# Altium footprint library SR PCB Library V01.PcbLib: 402 footprints (part 25 of 26)
Each footprint in its own frame and in the unit in brackets; x right, y up, seen from the top. Pads: shape width x height; smd on the part's side, far side on the other; paste and mask are expansions set on the pad; w line width, h text height; cw(c..) or ccw(c..) is an arc to the next point about the centre after c.
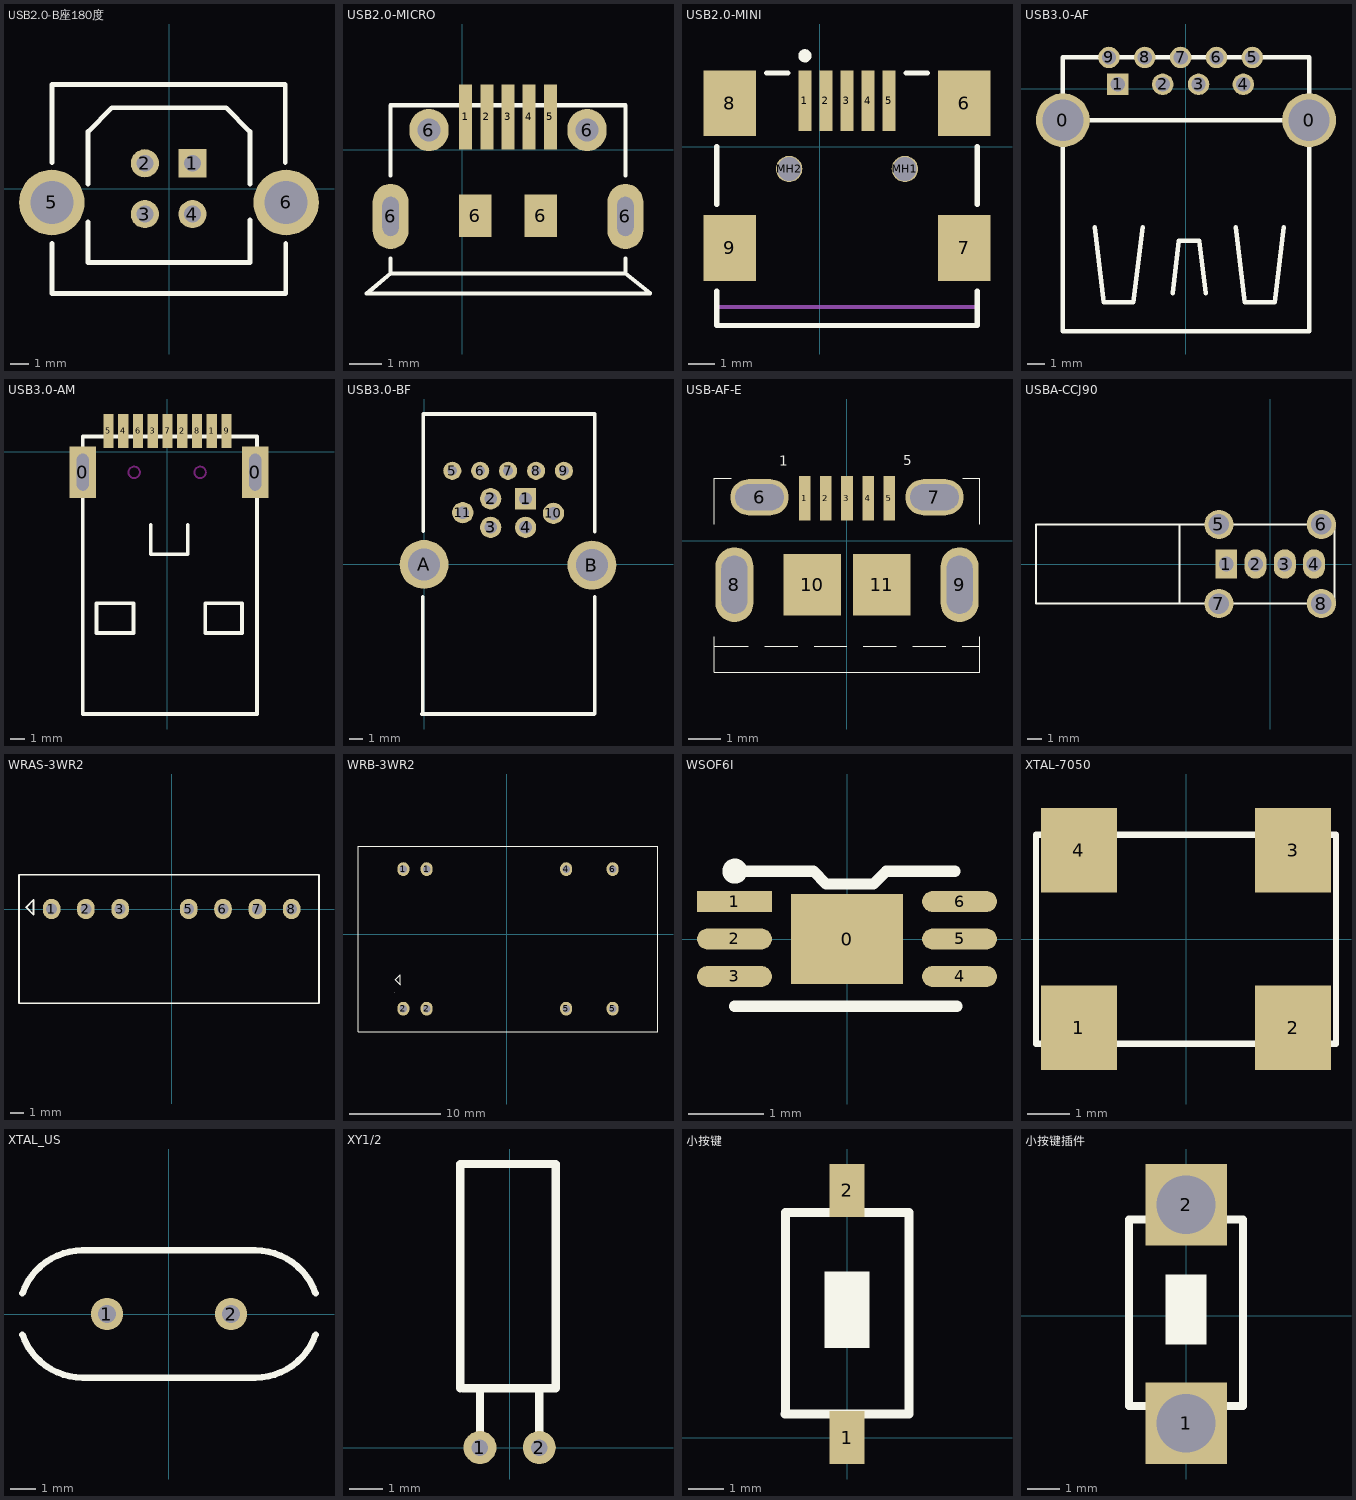
[diagram p24: the footprints below, top view; thin cyan lines are the x and y axes]

## USB2.0-B座180度 [mm]
pads (6):
  rect 1.5x1.5 hole 0.9: 1(1.25,1.355)
  round 1.5 hole 0.9: 2(-1.29,1.355) 3(-1.29,-1.355) 4(1.25,-1.355)
  round 3.5 hole 2.3: 5(-6.25,-0.736) 6(6.25,-0.736)
Top Overlay:
  lines w0.254: -6.243,-2.921 -6.243,-5.595 6.152,-5.595 ; -6.242,1.397 -6.242,5.563 6.2,5.563 6.2,1.397 ; -4.318,-1.778 -4.318,-3.937 4.318,-3.937 4.318,-1.651 ; -4.318,0.254 -4.318,3.048 -3.048,4.318 3.011,4.318 ; 3.048,4.318 4.318,3.048 4.318,0.254 ; 6.223,-5.588 6.223,-2.921

## USB2.0-MICRO [mm]
pads (11):
  rect 0.4x2 smd: 1(0.1,1) 2(0.75,1) 3(1.4,1) 4(2.05,1) 5(2.7,1)
  oval 1.1x2 hole 0.5 slot 1.2 at 90 deg: 6(-2.2,-2.05) 6(5,-2.05)
  oval 1.2x1.3 hole 0.7: 6(-1.025,0.6) 6(3.825,0.6)
  rect 1x1.3 smd: 6(0.4,-2.033) 6(2.4,-2.033)
Top Overlay:
  lines w0.127: -2.2,-3.337 -2.2,-3.8 ; -2.2,-0.797 -2.2,1.362 5,1.362 5,-0.797 ; 5,-3.337 5,-3.8 ; 5.753,-4.409 -2.94,-4.417 -2.2,-3.8 ; 5.753,-4.396 5,-3.8 ; -2.2,-3.8 5,-3.8

## USB2.0-MINI [mm]
pads (11):
  rect 0.5x2.3 smd: 1(-0.557,1.756) 2(0.243,1.756) 3(1.043,1.756) 4(1.843,1.756) 5(2.643,1.756)
  rect 2x2.5 smd: 6(5.493,1.656) 7(5.493,-3.844) 8(-3.407,1.656) 9(-3.407,-3.844)
  round 1 hole 0.9 unplated: MH1(3.243,-0.844) MH2(-1.157,-0.844)
Top Overlay:
  circle w0.25: c-0.557,3.456 r0.125
  lines w0.2: -3.907,-5.494 -3.907,-6.794 5.993,-6.794 5.993,-5.494 ; -3.907,-2.194 -3.907,0.006 ; -2.007,2.806 -1.207,2.806 ; 3.293,2.806 4.093,2.806 ; 5.993,-2.194 5.993,0.006
Mechanical 1:
  lines w0.15: -3.907,-6.094 5.993,-6.094
  text "PCB Edge" at -2.994,-6.527 h0.25

## USB3.0-AF [mm]
pads (11):
  round 3 hole 2.3: 0(-6.87,-1.75) 0(6.87,-1.75)
  rect 1.2x1.2 hole 0.8: 1(-3.8,0.25)
  round 1.2 hole 0.8: 2(-1.3,0.25) 3(0.7,0.25) 4(3.2,0.25) 5(3.7,1.75) 6(1.7,1.75) 7(-0.3,1.75) 8(-2.3,1.75) 9(-4.3,1.75)
Top Overlay:
  lines w0.254: -5.092,-7.719 -4.584,-11.91 -2.933,-11.91 -2.425,-7.719 ; -0.747,-11.405 -0.393,-8.481 0.75,-8.481 1.104,-11.405 ; 2.782,-7.719 3.29,-11.91 4.941,-11.91 5.449,-7.719 ; -6.87,-1.75 -6.87,1.75 6.87,1.75 6.87,-1.75 ; -6.87,-1.75 -6.87,-13.53 6.87,-13.53 6.87,-1.75 ; -6.87,-1.75 6.87,-1.75

## USB3.0-AM [mm]
pads (11):
  rect 1.8x3.5 hole 0.8 slot 2.5 at 90 deg: 0(-5.715,-1.397) 0(5.969,-1.397)
  rect 0.7x2.3 smd: 1(3.026,1.397) 2(1.026,1.397) 3(-0.974,1.397) 4(-2.974,1.397) 5(-3.974,1.397) 6(-1.974,1.397) 7(0.026,1.397) 8(2.026,1.397) 9(4.026,1.397)
Top Overlay:
  lines w0.254: -1.103,-4.953 -1.103,-6.953 1.397,-6.953 1.397,-4.953 ; -5.715,-17.784 6.096,-17.784 6.096,1.016 -5.715,1.016 -5.715,-17.784 ; -4.786,-12.287 -2.286,-12.287 -2.286,-10.287 -4.786,-10.287 -4.786,-12.287 ; 2.58,-12.287 2.58,-10.287 5.08,-10.287 5.08,-12.287 2.58,-12.287
Keep-Out Layer:
  circle w0.127: c-2.235,-1.406 r0.39
  circle w0.127: c2.235,-1.406 r0.39

## USB3.0-BF [mm]
pads (13):
  rect 1.524x1.524 hole 0.914: 1(7.27,4.71)
  round 1.524 hole 0.914: 2(4.77,4.71) 3(4.77,2.66) 4(7.27,2.66) 10(9.27,3.66) 11(2.77,3.71)
  round 1.3 hole 0.7: 5(2.02,6.71) 6(4.02,6.71) 7(6.02,6.71) 8(8.02,6.71) 9(10.02,6.71)
  round 3.505 hole 2.311: A(0,0)
  round 3.505 hole 2.3: B(12.023,-0.05)
Top Overlay:
  lines w0.254: -0.108,-2.301 -0.108,-10.675 -0.15,-10.716 12.183,-10.716 12.22,-10.68 12.22,-2.301 ; -0.074,2.378 -0.074,10.781 12.22,10.781 12.22,2.342

## USB-AF-E [mil]
height 118.11
pads (11):
  rect 14x54 smd: 1(-51.18,52.15) 2(-25.59,52.15) 3(0,52.15) 4(25.59,52.15) 5(51.18,52.15)
  oval 71x44 hole 31.5 slot 59.06 at 0 deg: 6(-106.3,53.15) 7(106.3,53.15)
  oval 46x91 hole 31.5 slot 70.87 at 90 deg: 8(-136.81,-53.15) 9(136.81,-53.15)
  rect 70x75 smd: 10(-42,-53.15) 11(42,-53.15)
Top Overlay:
  lines w1: -161.22,-127.95 -120,-127.95 ; -161.22,-116.34 -161.22,-159.64 161.22,-159.64 161.22,-116.34 ; -161.22,20.04 -161.22,76.18 -140.65,76.18 ; -100,-127.95 -60,-127.95 ; -40,-127.95 0,-127.95 ; 20,-127.95 60,-127.95 ; 80,-127.95 120,-127.95 ; 140,-127.95 161.22,-127.95 ; 140.65,76.18 161.22,76.18 161.22,20.04
  text "5" at 68.36,91.89 h11.81
  text "1" at -82.46,91.17 h11.81

## USBA-CCJ90 [mm]
pads (8):
  rect 1.5x2 hole 1: 1(-3,0)
  oval 1.5x2 hole 1: 2(-1,0) 3(1,0) 4(3,0)
  round 2 hole 1.4: 5(-3.5,2.7) 6(3.5,2.7) 7(-3.5,-2.7) 8(3.5,-2.7)
Top Overlay:
  lines w0.15: -6.2,-2.7 -6.2,2.7 ; 3.5,2.7 -16,2.7 -16,-2.7 3.5,-2.7 4.4,-2.7 4.4,2.6 4.4,2.7

## WRAS-3WR2 [mm] "金升阳电源模块"
height 9
pads (7):
  oval 1.3x1.5 hole 0.8: 1(-8.89,0) 2(-6.35,0) 3(-3.81,0) 5(1.27,0) 6(3.81,0) 7(6.35,0) 8(8.89,0)
Top Overlay:
  lines w0.127: -11.303,-6.985 -11.303,2.54 10.922,2.54 10.922,-6.985 -11.303,-6.985 ; -10.778,0.128 -10.228,0.678 -10.228,-0.422 -10.778,0.128

## WRB-3WR2 [mm] "电源模块"
height 11.5
pads (8):
  oval 1.3x1.5 hole 0.8: 1(-11.303,7.112) 1(-8.763,7.112) 2(-11.303,-8.128) 2(-8.763,-8.128) 4(6.477,7.112) 5(6.477,-8.128) 5(11.557,-8.128) 6(11.557,7.112)
Top Overlay:
  lines w0.127: -16.256,-10.643 16.51,-10.643 16.51,9.601 -16.256,9.601 -16.256,-10.643 ; -12.225,-6.402 -12.225,-6.402 ; -12.175,-4.952 -11.625,-5.502 -11.625,-4.402 -12.175,-4.952

## WSOF6I [mm]
pads (7):
  rect 1.5x1.2 smd: 0(0,0)
  rect 1x0.28 smd: 1(-1.504,0.5)
  oval 1x0.28 smd: 2(-1.504,0) 3(-1.504,-0.5) 4(1.504,-0.5) 5(1.504,0) 6(1.504,0.5)
Top Overlay:
  circle w0.254: c-1.499,0.906 r0.04
  lines w0.15: -1.504,-0.897 1.468,-0.897 ; -1.479,0.906 -0.449,0.906 -0.279,0.737 0.356,0.737 0.525,0.906 1.442,0.906

## XTAL-7050 [mm]
pads (4):
  rect 1.8x2 smd: 1(-2.54,-2.1) 2(2.54,-2.1) 3(2.54,2.1) 4(-2.54,2.1)
Top Overlay:
  lines w0.15: -3.556,-2.481 -3.556,2.472 3.556,2.472 3.556,-2.481 -3.556,-2.481

## XTAL_US [mm]
pads (2):
  round 1.27 hole 0.711: 1(-2.44,0) 2(2.44,0)
Top Overlay:
  lines w0.254: -5.765,-0.809 ccw(c-3.4,0) -3.4,-2.5 ; -5.765,0.809 cw(c-3.4,0) -3.4,2.5 ; -3.405,2.5 3.4,2.5 cw(c3.4,0) 5.765,0.809 ; -3.4,-2.5 3.4,-2.5 ccw(c3.4,0) 5.765,-0.809

## XY1/2 [mm]
height 0.5
pads (2):
  round 1 hole 0.5: 1(-0.9,0) 2(0.9,0)
Top Overlay:
  lines w0.254: -1.5,1.8 -1.5,8.6 1.4,8.6 1.4,1.8 -1.41,1.8 ; -0.9,0 -0.9,1.8 0.9,1.8 0.9,0

## 小按键 [mm]
pads (2):
  rect 1x1.5 smd: 1(0,0) 2(0,7)
Top Overlay:
  rectangle: -0.635,2.54 0.635,4.699
  lines w0.254: -1.753,0.66 1.75,0.66 1.75,6.375 -1.75,6.375 -1.75,0.686

## 小按键插件 [mm]
pads (2):
  rect 2.5x2.5 hole 1.8: 1(0,-3.3) 2(0,3.4)
Top Overlay:
  rectangle: -0.635,-0.89 0.635,1.269
  lines w0.254: -1.753,-2.77 1.75,-2.77 1.75,2.945 -1.75,2.945 -1.75,-2.744